# EAGLE library part BLUES_WIRELESS_SWAN_2.54 (library EAGLE-SWAN-C)
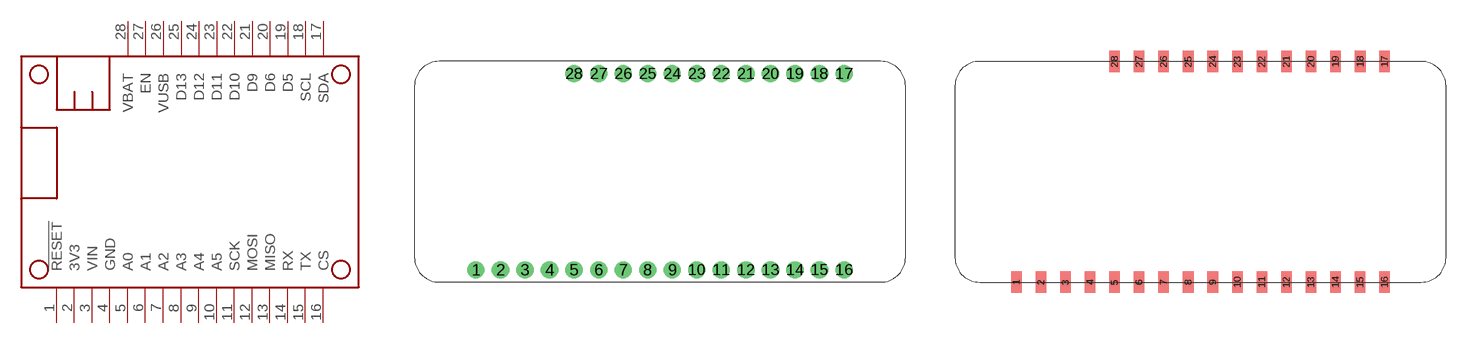
[diagram p0: symbol with the pads of BLUES_WIRELESS_SWAN_2.54_HEADERS; footprints BLUES_WIRELESS_SWAN_2.54_HEADERS, BLUES_WIRELESS_SWAN_2.54_SMD]

Designator prefix MOD

## BLUES_WIRELESS_SWAN_2.54BLUES_WIRELESS_SWAN_2.54_HEADERS  [BLUES_WIRELESS_SWAN_2.54_HEADERS]
1  !RESET  in
2  3V3  sup
3  VIN  pwr
4  GND  pwr
5  A0
6  A1
7  A2
8  A3
9  A4
10  A5
11  SCK
12  MOSI
13  MISO
14  RX
15  TX
16  CS  pas
17  SDA
18  SCL
19  D5
20  D6
21  D9
22  D10
23  D11
24  D12
25  D13
26  VUSB  sup
27  EN  pas
28  VBAT  sup

## BLUES_WIRELESS_SWAN_2.54BLUES_WIRELESS_SWAN_2.54_SMD  [BLUES_WIRELESS_SWAN_2.54_SMD]
Pads as for BLUES_WIRELESS_SWAN_2.54_HEADERS

## Footprint BLUES_WIRELESS_SWAN_2.54_HEADERS (pad centres in mm)
drill 1 pad 1.778: 1 6.35,1.27; 2 8.89,1.27; 3 11.43,1.27; 4 13.97,1.27; 5 16.51,1.27; 6 19.05,1.27; 7 21.59,1.27; 8 24.13,1.27; 9 26.67,1.27; 10 29.21,1.27; 11 31.75,1.27; 12 34.29,1.27; 13 36.83,1.27; 14 39.37,1.27; 15 41.91,1.27; 16 44.45,1.27; 17 44.45,21.59; 18 41.91,21.59; 19 39.37,21.59; 20 36.83,21.59; 21 34.29,21.59; 22 31.75,21.59; 23 29.21,21.59; 24 26.67,21.59; 25 24.13,21.59; 26 21.59,21.59; 27 19.05,21.59; 28 16.51,21.59

## Footprint BLUES_WIRELESS_SWAN_2.54_SMD (pad centres in mm)
smd 1.1 x 2.2: 1 6.35,0; 2 8.89,0; 3 11.43,0; 4 13.97,0; 5 16.51,0; 6 19.05,0; 7 21.59,0; 8 24.13,0; 9 26.67,0; 10 29.21,0; 11 31.75,0; 12 34.29,0; 13 36.83,0; 14 39.37,0; 15 41.91,0; 16 44.45,0; 17 44.45,22.86; 18 41.93,22.86; 19 39.37,22.86; 20 36.83,22.86; 21 34.29,22.86; 22 31.75,22.86; 23 29.21,22.86; 24 26.67,22.86; 25 24.13,22.86; 26 21.59,22.86; 27 19.05,22.86; 28 16.51,22.86